# Altium schematic symbol library 18432Crystal.SchLib: 3 symbols
Pins are listed as number, name and electrical type; pins without a type are passive.

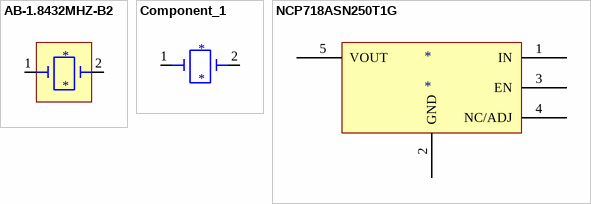
[diagram p0: symbols AB-1.8432MHZ-B2 to NCP718ASN250T1G]

## AB-1.8432MHZ-B2
designator *
Crystal 1.8432MHz
footprint PCBComponent_1
pins: 1 2, 2

## Component_1
designator *
footprint PCBComponent_1
pins: 1 2, 2

## NCP718ASN250T1G
designator *
footprint NCP718ASN250T1G
pins: 1 IN, 2 GND, 3 EN, 4 NC/ADJ, 5 VOUT